# Altium schematic symbol library BJT.SchLib: 1 symbol
Pins are listed as number, name and electrical type; pins without a type are passive.

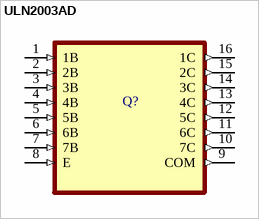
[diagram p0: symbol ULN2003AD]

## ULN2003AD
designator Q?  (value not drawn)
High-Voltage, High-Current Darlington Transistor Arrays; MF: Texas Instruments; MP: ULN2003AD; Mouser-Purchase-URL: https://snapeda.com/shop?store=Mouser&id=152260; SnapEDA_Link: https://www.snapeda.com/parts/ULN2003AD/Texas%20Instruments/view-part/152260/?ref=snap; Availability: Unavailable; Value: *; Price: None; Arrow_Electronics-Purchase-URL: https://snapeda.com/shop?store=Arrow+Electronics&id=152260; DigiKey-Purchase-URL: https://snapeda.com/shop?store=DigiKey&id=152260; Package: SOIC-16 Texas Instruments
footprint SOIC127P600X175-16N
pins: 1 1B (in), 2 2B (in), 3 3B (in), 4 4B (in), 5 5B (in), 6 6B (in), 7 7B (in), 8 E (in), 9 COM (out), 10 7C (out), 11 6C (out), 12 5C (out), 13 4C (out), 14 3C (out), 15 2C (out), 16 1C (out)